# Altium schematic symbol library ISO SI8641BA-C-IU.Schlib: 1 symbol
Pins are listed as number, name and electrical type; pins without a type are passive.

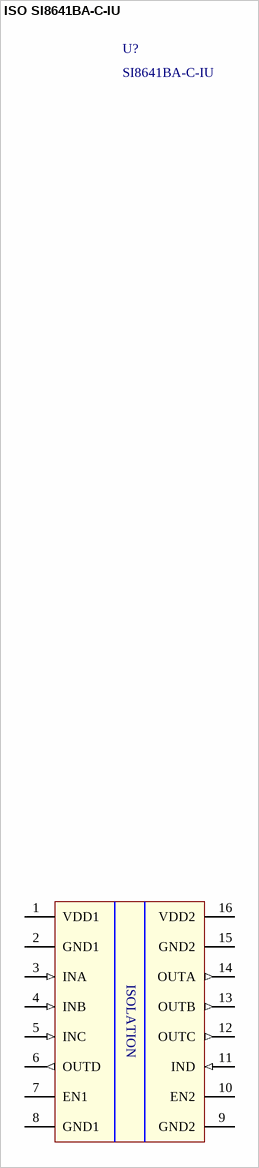
[diagram p0: symbol ISO SI8641BA-C-IU]

## ISO SI8641BA-C-IU
designator U?, comment SI8641BA-C-IU
General Purpose Digital Isolator 1000Vrms 4 Channel 150Mbps 35kV/µs CMTI 16-QSOP (0.154", 3.90mm Width)
footprint SOP64P600X175-16N (SOP, 16-Leads, Body 4.90x3.91mm, Pitch 0.64mm, IPC Medium Density)
pins: 1 VDD1 (power), 2 GND1 (power), 3 INA (in), 4 INB (in), 5 INC (in), 6 OUTD (out), 7 EN1, 8 GND1 (power), 9 GND2 (power), 10 EN2, 11 IND (in), 12 OUTC (out), 13 OUTB (out), 14 OUTA (out), 15 GND2 (power), 16 VDD2 (power)
text: ISOLATION